# Altium footprint library layer_kinds.PcbLib: 1 footprints
Each footprint in its own frame and in the unit in brackets; x right, y up, seen from the top. Pads: shape width x height; smd on the part's side, far side on the other; paste and mask are expansions set on the pad; w line width, h text height; cw(c..) or ccw(c..) is an arc to the next point about the centre after c.
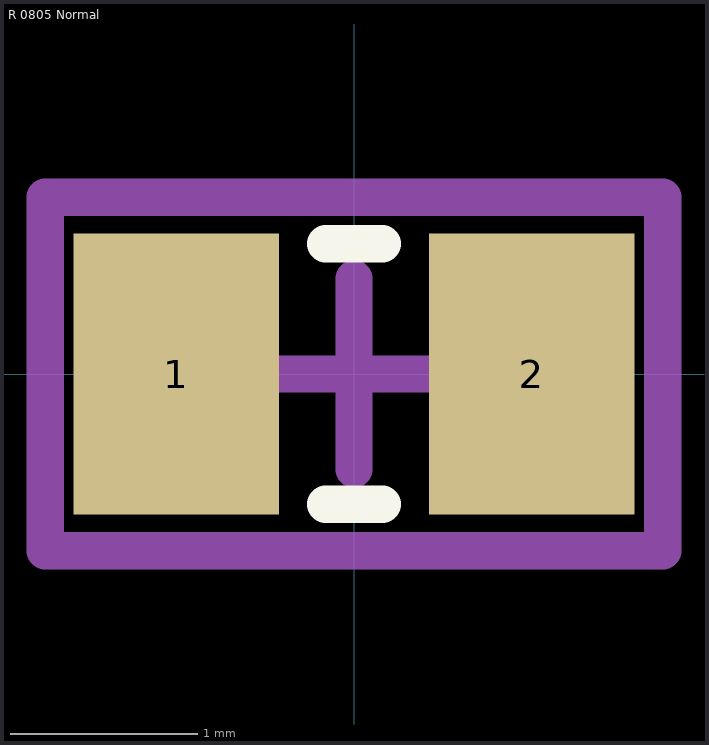
[diagram p0: the footprint, top view; thin cyan lines are the x and y axes]

## R 0805 Normal [mm] "Resistor 0805 / 2012, IPC-7351B nominal density, derived from R 0805 Most"
pads (2):
  rect 1.1x1.5 smd: 1(-0.95,0) 2(0.95,0)
Top Overlay:
  lines w0.2: -0.15,-0.695 0.15,-0.695 ; -0.15,0.695 0.15,0.695
Top Component Center (Mech6):
  lines w0.2: -0.508,0 0.508,0 ; 0,-0.508 0,0.508
Top Assembly:
  lines w0.2: -1.65,-0.945 1.65,-0.945 1.65,0.945 -1.65,0.945 -1.65,-0.945
  text ".Designator" at -2.253,-0.013 h1
Top Courtyard:
  lines w0.2: -1.65,-0.945 1.65,-0.945 1.65,0.945 -1.65,0.945 -1.65,-0.945
3D body "Resistor 0805.step": height 0.45, standoff 0, extent -1,-0.625 1,0.625